# Altium footprint library PCB - JUMPER - PLS-3R.PcbLib: 1 footprints
Each footprint in its own frame and in the unit in brackets; x right, y up, seen from the top. Pads: shape width x height; smd on the part's side, far side on the other; paste and mask are expansions set on the pad; w line width, h text height; cw(c..) or ccw(c..) is an arc to the next point about the centre after c.
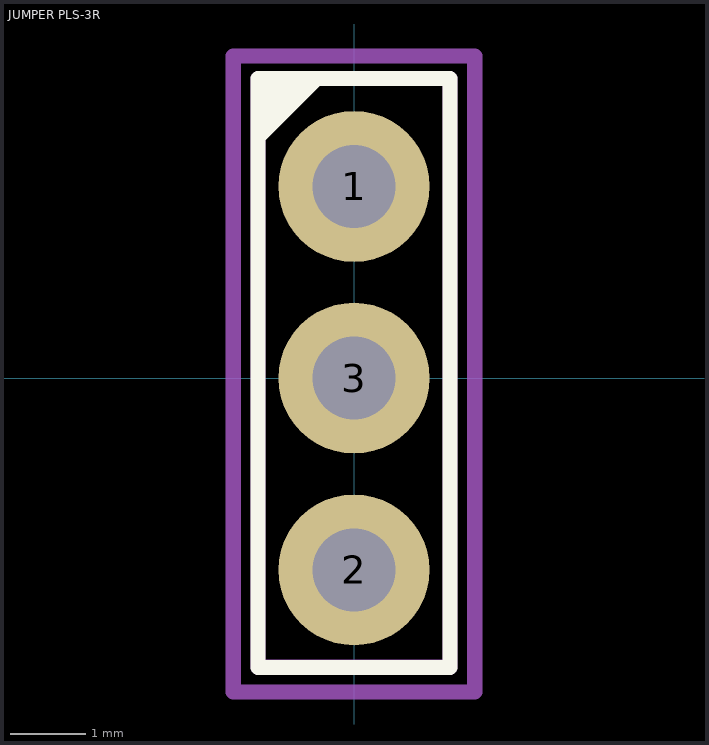
[diagram p0: the footprint, top view; thin cyan lines are the x and y axes]

## JUMPER PLS-3R [mm] "2.54mm 3 pin male"
height 6
pads (3):
  round 2 hole 1.1: 1(0,2.54) 2(0,-2.54) 3(0,0)
Top Overlay:
  region: -1.23,4 -1.23,3.1 -0.33,4
  lines w0.2: -1.27,-3.835 -1.27,3.97 1.27,3.97 1.27,-3.835 -1.27,-3.835
Top Component Center:
  lines w0.2: -0.5,0.02 0.5,0.02 ; 0,-0.48 0,0.52
Top Assembly:
  lines w0.2: -1.27,-3.83 -1.27,3.97 1.27,3.97 1.27,-3.83 0.735,-3.83 -0.535,-3.83 -1.27,-3.83
Top Courtyard:
  lines w0.2: -1.6,-4.16 -1.6,4.27 1.6,4.27 1.6,-4.16 -1.6,-4.16
3D body "User Library-PLS-3R.step": height 5.45, standoff -3, extent -7.35,-3.81 1.27,3.81
3D body "Jumper.step": height 6.2, standoff 3.8, extent -7.6,-1.43 -1.6,3.77